# Altium schematic symbol library wius.SchLib: 43 symbols
Pins are listed as number, name and electrical type; pins without a type are passive.

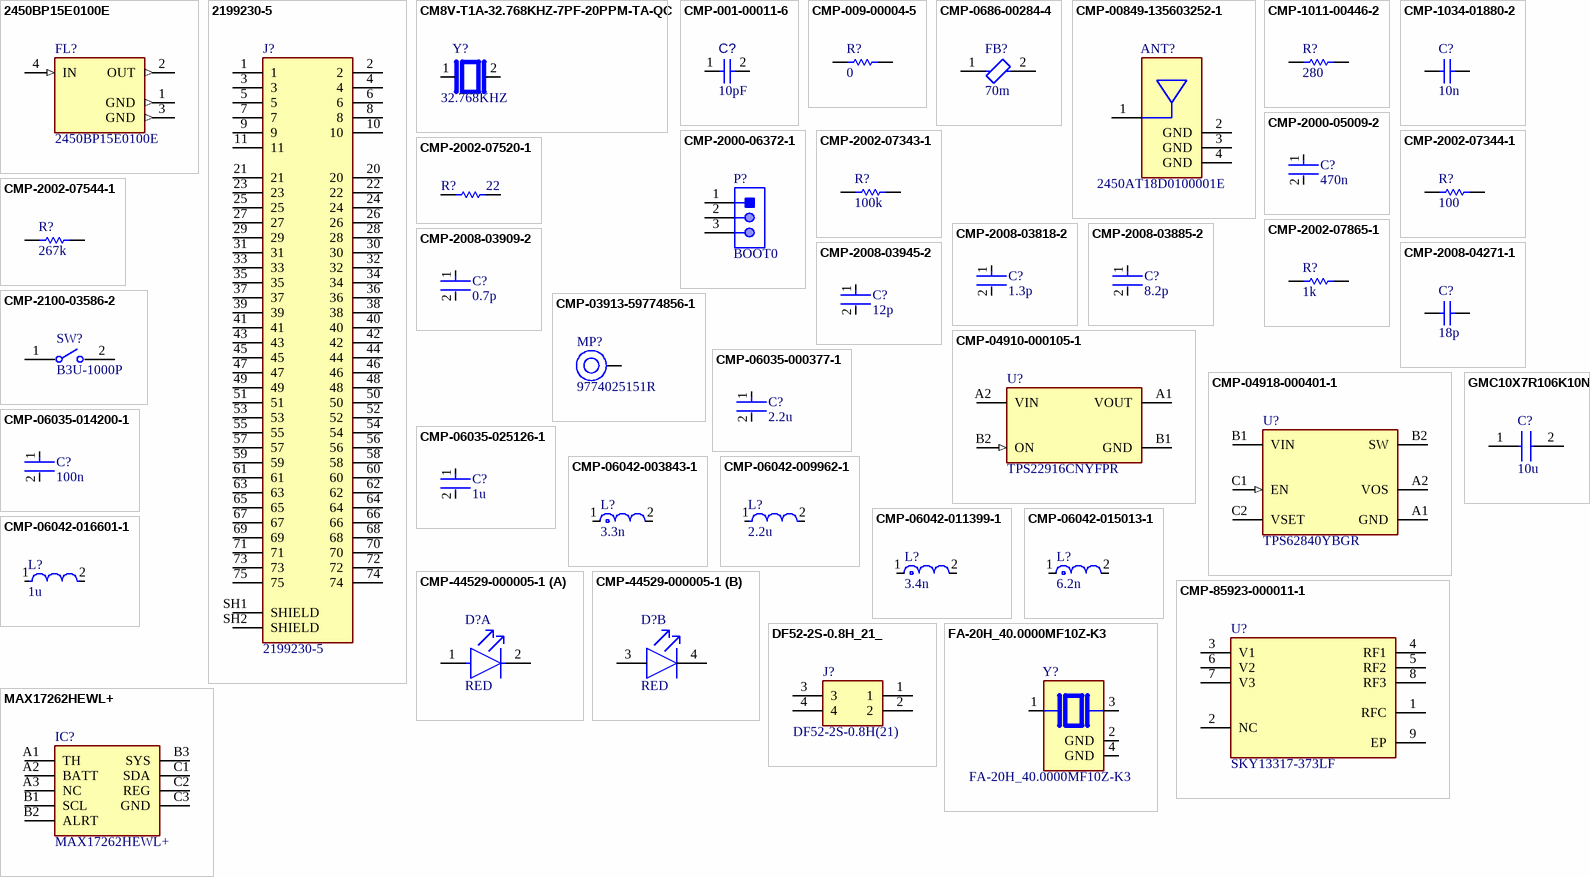
[diagram p0: symbols 2450BP15E0100E to MAX17262HEWL+]

## 2450BP15E0100E
designator FL?
Ceramic Filters Band Pass 1.5dB 50Ohm SMD 4Pin T/R; MF: {'manufacturer': u'Johanson Technology'}; Package: None; Price: None; Value: *; MP: 2450BP15E0100E; Availability: Unavailable; Supplier 1: Digikey; Supplier Part Number 1: 712-2450BP15E0100001ECT-ND; Supplier 2: Farnell; Supplier Part Number 2: 2148528
footprint FIL_2450BP15E0100E
pins: 1 GND (out), 2 OUT (out), 3 GND (out), 4 IN (in)

## 2199230-5
designator J?
Conn Card Edge 67 POS 0.5mm Solder RA SMD Embossed T/R; MF: {'manufacturer': u'TE Connectivity'}; Package: None; Price: None; Value: *; MP: 2199230-5; Availability: Unavailable
footprint TE_2199230-5
pins: 1, 2, 3, 4, 5, 6, 7, 8, 9, 10, 11, 20, 21, 22, 23, 24, 25, 26, 27, 28, 29, 30, 31, 32, 33, 34, 35, 36, 37, 38, 39, 40, 41, 42, 43, 44, 45, 46, 47, 48, 49, 50, 51, 52, 53, 54, 55, 56, 57, 58, 59, 60, 61, 62, 63, 64, 65, 66, 67, 68, 69, 70, 71, 72, 73, 74, 75, SH1 SHIELD, SH2 SHIELD

## CM8V-T1A-32.768KHZ-7PF-20PPM-TA-QC
designator Y?, comment 32.768KHZ
MF: {'manufacturer': u'Micro Crystal'}; MP: CM8V-T1A-32.768KHZ-7PF-20PPM-TA-QC; Package: None; Price: None; Value: *; Availability: Unavailable; Supplier 1: Arrow Electronics; Supplier Part Number 1: CM8V-T1A-32.768KHZ-7PF-20PPM-TA-QC
footprint XTAL_CM8V-T1A-32.768KHZ-7PF-20PPM-TA-QC
pins: 1, 2

## CMP-001-00011-6
designator C?, comment value 10pF  (hidden comment: Capacitor 10 pF +/- 0.25 pF 50 V 0402)
Chip Capacitor, 10 pF, +/- 0.25 pF, 50 V, 0402 (1005 Metric); Manufacturer: KEMET; Manufacturer Part Number: C0402C100C5GACTU; Manufacturer: KYOCERA AVX; Manufacturer Part Number: 04025A100JAT2A; Manufacturer: TDK; Manufacturer Part Number: C1005C0G1H100D050BA; Voltage Rating: 50V; Tolerance: 0.25%; Capacitor Type: Ceramic; Mounting Technology: SM; Pins: 2; Case/Package: 0402; Min Operating Temperature: -55°C; RoHS Compliant: True; Max Operating Temperature: 125°C; Component Type: Capacitors
footprint CAPC1005X55X30LL05T10 (Chip Capacitor, 2-Leads, Body 1.05x0.55mm, IPC High Density)
footprint CAPC1005X55X30ML05T10 (Footprint not found)
footprint CAPC1005X55X30NL05T10 (Footprint not found)
pins: 1, 2

## CMP-009-00004-5
designator R?, comment value 0  (hidden comment: Resistor 0R 0402 63 mW)
Chip Resistor, 0 Ohm, 0.063 W, -55 to 155 degC, 0402 (1005 Metric); Manufacturer: Vishay; Manufacturer Part Number: CRCW04020000Z0ED; Manufacturer: Yageo Group; Manufacturer Part Number: RC0402JR-070RL; Power: 63mW; Voltage Rating: 50V; Max Operating Temperature: 155°C; Pins: 2; RoHS Compliant: True; Min Operating Temperature: -55°C; Mounting Technology: SM; Case/Package: 0402; Component Type: Resistors
footprint RESC1005X40X25ML05T10 (Chip Resistor, 2-Leads, Body 1.05x0.55mm, IPC Low Density)
footprint RESC1005X40X25NL05T10 (Chip Resistor, 2-Leads, Body 1.00x0.50mm, IPC Medium Density)
footprint RESC1005X40X25LL05T10 (Chip Resistor, 2-Leads, Body 1.00x0.50mm, IPC High Density)
pins: 1, 2

## CMP-0686-00284-4
designator FB?, comment 70m
Chip Ferrite Bead, 0402, 80Ω @ 100MHz, 0.07Ω, 25%, 1.5A; Manufacturer: Murata; Manufacturer Part Number: BLM15PD800SN1D; Number of Lines: 1; DC Resistance-Max: 70mR; Impedance: 80R; Height: 0.5mm; Package Quantity: 1; RoHS Compliant: Yes; Max Operating Temperature: 125°C; Depth: 0.5mm; Max Current Rating: 1.5A; Max DC Current: 1.5A; Current Rating: 1.5A; Number of Pins: 2; Case Code (Imperial): 0402; Case/Package: 0402; Case Code (Metric): 1005; Material: Ferrite; Packaging: Tape and Reel; REACH SVHC: No SVHC; Length: 1mm; Tolerance: 25%; Termination: SMD/SMT; Series: BLM15PD; Number of Circuits: 1; Test Frequency: 100MHz; DC Resistance (DCR): 70mR; Min Operating Temperature: -55°C; Lead Free: Lead Free; Width: 0.5mm
footprint FP-BLM15-0_05-MFG
pins: 1, 2

## CMP-00849-135603252-1
designator ANT?, comment 2450AT18D0100001E
2450AT18D0100001E 2.4 Ghz SMD Antenna Resiliant; NexarPartId: 135603252; Manufacturer: Johanson; Bandwidth: 100MHz; Impedance: 50Ω; Power Rating: 3W; Number of Bands: 1; Max Frequency: 2.5GHz; Return Loss: 10dB; Gain: -1dB; Min Operating Temperature: -40°C; Height: 1.3mm; Case/Package: 1206; Max Operating Temperature: 125°C; Manufacturer Part Number: 2450AT18D0100001E
footprint FP-2450AT18D0100001E-MFG
pins: 1 FEED, 2 GND, 3 GND, 4 GND

## CMP-1011-00446-2
designator R?, comment 280
Manufacturer: Yageo; Part Number: RC0402FR-07280RL; Manufacturer: Yageo Group; Manufacturer: Vishay; Manufacturer Part Number: CRCW0402280RFKED; Manufacturer Part Number: CRCW0402280RFKTD; Manufacturer: Panasonic; Manufacturer Part Number: ERJ-2RKF2800X; Manufacturer: Bourns; Manufacturer Part Number: CR0402-FX-2800GLF; Manufacturer Part Number: RC0402FR-07280RL
footprint RESC1005X40X25NL05T10 (Chip Resistor, 2-Leads, Body 1.00x0.50mm, IPC Medium Density)
footprint RESC1005X40X25ML05T10 (Chip Resistor, 2-Leads, Body 1.05x0.55mm, IPC Low Density)
footprint RESC1005X40X25LL05T10 (Chip Resistor, 2-Leads, Body 1.00x0.50mm, IPC High Density)
pins: 1, 2
1 alternate drawing of the same symbol

## CMP-1034-01880-2
designator C?, comment 10n
Manufacturer: Murata; Part Number: GRM155R71E103KA01D; Manufacturer: KEMET; Manufacturer Part Number: C0402C103K3RACTU; Manufacturer: TDK; Manufacturer Part Number: C1005X5R1E103K; Manufacturer: Kyocera / AVX; Manufacturer: Vishay; Manufacturer Part Number: VJ0402Y103KXXAP; Manufacturer: KYOCERA AVX; Manufacturer Part Number: 04023D103KAT2A; Manufacturer Part Number: VJ0402Y103KXXAC; Manufacturer Part Number: VJ0402Y103KXXCW1BC; Manufacturer Part Number: C0402C103K3RACTM; Manufacturer Part Number: C0402C103K3RAC; Manufacturer Part Number: C1005X7R1E103K; Manufacturer: Yageo Group; Manufacturer Part Number: CC0402KRX7R8BB103; Manufacturer Part Number: 04023C103KAT4A; Manufacturer Part Number: VJ0402Y103KXXPW1BC; Manufacturer Part Number: GRM155R71E103KA01D
footprint CAPC1005X55X25LL05T10 (Chip Capacitor, 2-Leads, Body 1.00x0.50mm, IPC High Density)
pins: 1, 2
1 alternate drawing of the same symbol

## CMP-2000-05009-2
designator C?, comment 470n
CAP CER 0.47UF 10V X5R 0402; Manufacturer: Murata Electronics North America; Manufacturer Part Number: GRM155R61A474KE15D; Manufacturer: Murata; Temperature Coefficient: 15%; Material: Ceramic; Tolerance: 10%; Device Class L3: Ceramic Capacitors; ComponentLink2Description: Datasheet; ComponentLink2URL: https://search.murata.co.jp/Ceramy/image/img/A01X/G101/ENG/GRM155R61A474KE15-01A.pdf; Package: GRM15-0.1; Voltage Rating: 10V; Capacitance: 0.47uF; Category: Cap; Temperature Range High: +85°C; Temperature Range Low: -55°C; Height: 0.55mm; Device Class L2: Capacitors; Lead Free: Yes; Mouser Description: Multilayer Ceramic Capacitors MLCC - SMD/SMT 0402 0.47uF 10volts X5R 10%; Ipc Land Pattern Name: CAPC10050X50; Temperature Characteristic: X5R; Digikey Description: CAP CER 0.47UF 10V X5R 0402; Value: 0.47uF; Octopart: https://octopart.com/grm155r61a474ke15d-murata-196883; Automotive: No; Device Class L1: Passive Components; Temperature: -55°C to +85°C; RoHS: TRUE
footprint FP-GRM15-0_1-MFG
pins: 1, 2

## CMP-2000-06372-1
designator P?, comment BOOT0
Male Header, Pitch 1.27 mm, 1 x 3 Position, Height 4 mm, Tail Length 2.3 mm, -40 to 105 degC, RoHS, Bulk; Manufacturer: Sullins; Manufacturer Part Number: GRPB031VWVN-RC; Other Names: S9014E-03; Number of Positions: 3; Connector Type: Header,Unshrouded; Pitch: 0.050"(1.27mm); Dynamic Catalog: GRPB; Catalog Drawings: S9014ESeriesTop; Mating Products: S9010E-03-ND / -CONNHEADER.050"3POSR/APCB / S9008E-03-ND / -CONNHEADER.050"3POSPCBGOLD / S9005E-03-ND / -CONNHEADER.050"3POSSMDGOLD; Number of Positions Loaded: All; Contact Finish: Gold; Mounting Type: ThroughHole; Termination: Solder; Packaging: Bulk; Category: Connectors,Interconnects; Package Description: Male Header, Pitch 1.27 mm, 1 x 3 Position, Height 4 mm, Tail Length 2.3 mm; Standard Package: 1; Datasheet URL: http://www.sullinscorp.com/drawings/71_GRPB___1VWVN-RC,_10957-C.pdf; Package Reference: GRPB031VWVN-RC; Family: RectangularConnectors-Headers,MalePins; Number of Rows: 1; Contact Type: MalePin; Manufacturer URL: http://www.sullinscorp.com/; Mounting Technology: ThroughHole; Contact Mating Length: 0.118"(3.00mm); Contact Finish Thickness: Flash; Datasheet Version: Rev. C, 12/2008
footprint SLIN-GRPB031VWVN-RC_V (Header, 3-Leads, Body 3.81x2.14mm, Pitch 1.27mm)
pins: 1, 2, 3

## CMP-2002-07343-1
designator R?, comment 100k
Part Number: RC0402FR-07100KL; Manufacturer: Yageo / Phycomp; Manufacturer: Yageo Group; Manufacturer Part Number: RC0402FR-07100KL
footprint RESC1005X40X25NL05T10 (Chip Resistor, 2-Leads, Body 1.00x0.50mm, IPC Medium Density)
footprint RESC1005X40X25LL05T10 (Chip Resistor, 2-Leads, Body 1.00x0.50mm, IPC High Density)
footprint RESC1005X40X25ML05T10 (Chip Resistor, 2-Leads, Body 1.05x0.55mm, IPC Low Density)
pins: 1, 2
1 alternate drawing of the same symbol

## CMP-2002-07344-1
designator R?, comment 100
Part Number: RC0402FR-07100RL; Manufacturer: Yageo / Phycomp; Manufacturer: Yageo Group; Manufacturer Part Number: RC0402FR-07100RL
footprint RESC1005X40X25ML05T10 (Chip Resistor, 2-Leads, Body 1.05x0.55mm, IPC Low Density)
footprint RESC1005X40X25NL05T10 (Chip Resistor, 2-Leads, Body 1.00x0.50mm, IPC Medium Density)
footprint RESC1005X40X25LL05T10 (Chip Resistor, 2-Leads, Body 1.00x0.50mm, IPC High Density)
pins: 1, 2
1 alternate drawing of the same symbol

## CMP-2002-07520-1
designator R?, comment 22
Manufacturer: Yageo / Phycomp; Part Number: RC0402FR-0722RL; Manufacturer: Yageo Group; Manufacturer Part Number: RC0402FR-0722RL
footprint RESC1005X40X25LL05T10 (Chip Resistor, 2-Leads, Body 1.00x0.50mm, IPC High Density)
footprint RESC1005X40X25NL05T10 (Chip Resistor, 2-Leads, Body 1.00x0.50mm, IPC Medium Density)
footprint RESC1005X40X25ML05T10 (Chip Resistor, 2-Leads, Body 1.05x0.55mm, IPC Low Density)
pins: 1, 2
1 alternate drawing of the same symbol

## CMP-2002-07544-1
designator R?, comment 267k
Manufacturer: Yageo; Part Number: RC0402FR-07267KL; Manufacturer: Yageo Group; Manufacturer Part Number: RC0402FR-07267KL
footprint RESC1005X40X25LL05T10 (Chip Resistor, 2-Leads, Body 1.00x0.50mm, IPC High Density)
footprint RESC1005X40X25NL05T10 (Chip Resistor, 2-Leads, Body 1.00x0.50mm, IPC Medium Density)
footprint RESC1005X40X25ML05T10 (Chip Resistor, 2-Leads, Body 1.05x0.55mm, IPC Low Density)
pins: 1, 2
1 alternate drawing of the same symbol

## CMP-2002-07865-1
designator R?, comment 1k
Manufacturer: Yageo; Part Number: RC0402FR-131KL; Manufacturer: Yageo Group; Manufacturer Part Number: RC0402FR-131KL
footprint RESC1005X40X25LL05T10 (Chip Resistor, 2-Leads, Body 1.00x0.50mm, IPC High Density)
footprint RESC1005X40X25ML05T10 (Chip Resistor, 2-Leads, Body 1.05x0.55mm, IPC Low Density)
footprint RESC1005X40X25NL05T10 (Chip Resistor, 2-Leads, Body 1.00x0.50mm, IPC Medium Density)
pins: 1, 2
1 alternate drawing of the same symbol

## CMP-2008-03818-2
designator C?, comment 1.3p
Multi-Layer Ceramic Capacitor 1.3pF C0G  ±0.05pF 0402 Paper T/R; Manufacturer: Murata; Manufacturer Part Number: GJM1555C1H1R3WB01D; Voltage Rating (DC): 50V; Radiation Hardening: No; Voltage Rating: 50V; Thickness: 0.022inch; Case Code (Metric): 1005; Packaging: Tape and Reel; Dielectric: C0G; Case Code (Imperial): 0402; Lead Free: Lead Free; Depth: 0.5mm; Termination: SMD/SMT; Case/Package: 0402; Min Operating Temperature: -55°C; Height: 0.5mm; Max Operating Temperature: 125°C; Capacitance: 1.3pF; Package Quantity: 10000; Width: 0.02inch; Length: 0.039inch; Mount: Surface Mount
footprint FP-GJM155-0_05-IPC_B
footprint FP-GJM155-0_05-IPC_C
pins: 1, 2

## CMP-2008-03885-2
designator C?, comment 8.2p
Multi-Layer Ceramic Capacitor 8.2pF C0G  ±0.1pF 0402 Paper T/R; Manufacturer: Murata; Manufacturer Part Number: GJM1555C1H8R2BB01D; Voltage Rating: 50V; Case Code (Imperial): 0402; Length: 1mm; Width: 0.02inch; Dielectric: C0G; Mount: Surface Mount; Case Code (Metric): 1005; Max Operating Temperature: 125°C; Thickness: 0.022inch; Lead Free: Lead Free; Package Quantity: 10000; Case/Package: 0402; Voltage Rating (DC): 50V; Termination: SMD/SMT; Height: 0.5mm; Capacitance: 8.2pF; Min Operating Temperature: -55°C; Radiation Hardening: No; Packaging: Tape and Reel; Depth: 0.5mm
footprint FP-GJM155-0_05-IPC_B
footprint FP-GJM155-0_05-IPC_C
pins: 1, 2

## CMP-2008-03909-2
designator C?, comment 0.7p
Multi-Layer Ceramic Capacitor 0.7pF C0G  ±0.05pF 0402 Paper T/R; Manufacturer: Murata; Manufacturer Part Number: GJM1555C1HR70WB01D; Voltage Rating (DC): 50V; Packaging: Tape and Reel; Case Code (Imperial): 0402; Mount: Surface Mount; Case Code (Metric): 1005; Width: 0.02inch; Length: 1mm; Radiation Hardening: No; Max Operating Temperature: 125°C; Termination: SMD/SMT; Dielectric: C0G; Min Operating Temperature: -55°C; Height: 0.5mm; Capacitance: 0.7pF; Voltage Rating: 50V; Thickness: 0.022inch; Package Quantity: 10000; Depth: 0.5mm; Case/Package: 0402
footprint FP-GJM155-0_05-IPC_C
footprint FP-GJM155-0_05-IPC_B
pins: 1, 2

## CMP-2008-03945-2
designator C?, comment 12p
CAP CER 12PF 50V C0G/NP0 0402; Manufacturer: Murata; Manufacturer Part Number: GRM1555C1H120GA01D; Tolerance: 2%; Dielectric: C0G; Material: Ceramic; Termination: SMD/SMT; Mount: Surface Mount; REACH SVHC: No SVHC; Depth: 0.5mm; Case Code (Metric): 1005; Voltage Rating: 50V; Height: 0.5mm; Voltage Rating (DC): 50V; Case Code (Imperial): 0402; Package Quantity: 10000; Construction: Flat; Thickness: 0.022inch; Length: 1mm; Min Operating Temperature: -55°C; Width: 0.5mm; Lead Free: Lead Free; Capacitance: 12pF; Case/Package: 0402; Packaging: Tape and Reel; Series: GRM; Voltage: 50V; Radiation Hardening: No; Max Operating Temperature: 125°C
footprint FP-GRM155-0_05-MFG
pins: 1, 2

## CMP-2008-04271-1
designator C?, comment 18p
Manufacturer: Murata; Part Number: GRM1555C1H180GA01D; Manufacturer Part Number: GRM1555C1H180GA01D
footprint CAPC1005X55X25LL05T10 (Chip Capacitor, 2-Leads, Body 1.00x0.50mm, IPC High Density)
pins: 1, 2
1 alternate drawing of the same symbol

## CMP-2100-03586-2
designator SW?, comment B3U-1000P
SWITCH TACTILE SPST-NO 0.05A 12V; Manufacturer: Omron; Contact Resistance: 100mR; Operating Force: 1.5N; Max Current Rating: 50mA; Switch Travel: 0.15mm; Actuator Type: Standard; Mechanical Life: 200000Cycles; Ratings: Dust Proof; Illumination Type: Non-Illuminated; Throw Configuration: SPST; Actuator Length: 0.4mm; Switch Function: Off-Mom; Height: 1.2mm; Width: 3mm; Weight: 0.000776oz; Contact Material: Silver; Max Voltage Rating (DC): 12V; Insulation Resistance: 100MR; Lead Free: Lead Free; Current Rating: 50mA; Termination: SMD/SMT; Length: 4mm; Voltage Rating (DC): 12V; Contact Current Rating: 50mA; Orientation: Straight; Depth: 2.5mm; Max Operating Temperature: 70°C; Packaging: Tape and Reel; Min Operating Temperature: -25°C; Package Quantity: 1; Mount: Surface Mount; Electrical Life: 200000Cycles; Manufacturer Part Number: B3U-1000P
footprint FP-B3U-1000P-MFG
pins: 1, 2

## CMP-03913-59774856-1
designator MP?, comment 9774025151R
9774025151R Spacer Material: Steel Mounting: SMT Series: WA-SMSI Thread D: M2.5; NexarPartId: 59774856; Manufacturer: Wurth Elektronik; Plating: Tin; Threaded/Unthreaded: Threaded; Outside Diameter: 5.1054mm; REACH SVHC: Unknown; Packaging: Tape and Reel; Height: 2.6mm; Min Operating Temperature: -55°C; Max Operating Temperature: 150°C; RoHS: Compliant; Length: 2.5mm; Material: Steel; Manufacturer Part Number: 9774025151R
footprint 9774025151 (SMT Steel Spacer with internal Thread M2.5, height 2.5mm)
pins: 1

## CMP-04910-000105-1
designator U?, comment TPS22916CNYFPR
IC PWR SWITCH P-CHAN 1:1 4DSBGA; Manufacturer: Texas Instruments; Max Output Current: 2A; Number of Outputs: 1; Fault Protection: Reverse Current; Output Configuration: High Side; RoHS Compliant: Yes; Min Operating Temperature: -40°C; Packaging: Cut Tape; Number of Channels: 1; Max Operating Temperature: 85°C; Manufacturer Part Number: TPS22916CNYFPR
footprint FP-YFP0004-IPC_C
pins: A1 VOUT (power), A2 VIN (power), B1 GND (power), B2 ON (in)

## CMP-04918-000401-1
designator U?, comment TPS62840YBGR
ULTRA LOW IQ BUCK CONVERTER; Manufacturer: Texas Instruments; Manufacturer Part Number: TPS62840YBGR
footprint FP-YBG0006-MFG
pins: A1 GND (power), A2 VOS (power), B1 VIN (power), B2 SW (power), C1 EN (in), C2 VSET (power)

## CMP-06035-000377-1
designator C?, comment 2.2u
Chip Multilayer Ceramic Capacitors for General Purpose, 0402, 2.2uF, X7S, 22%, 10%, 10V; Manufacturer: Murata; Manufacturer Part Number: GRM155C71A225KE11D; Thickness: 0.022inch; Height: 0.5mm; Packaging: Tape and Reel; Voltage Rating (DC): 10V; Tolerance: 10%; Capacitance: 2.2uF; Case Code (Metric): 1005; Voltage Rating: 10V; Termination: SMD/SMT; Weight: 0.000212oz; Min Operating Temperature: -55°C; Max Operating Temperature: 125°C; Case/Package: 0402; Length: 0.039inch; Dielectric: X7S; Resistor Type: Ceramic; Width: 0.5mm; Mount: Surface Mount; Package Quantity: 10000; Case Code (Imperial): 0402; Lead Free: Lead Free
footprint FP-GRM155-0_2-IPC_C
pins: 1, 2

## CMP-06035-014200-1
designator C?, comment 100n
Multi-Layer Ceramic Capacitor 100nF 50V X7R ±10% 0402 Paper T/R; Manufacturer: Murata; Manufacturer Part Number: GRT155R71H104KE01D
footprint FP-GRT155-0_05-MFG
pins: 1, 2

## CMP-06035-025126-1
designator C?, comment 1u
Chip Multilayer Ceramic Capacitors for General Purpose, 0402, 1.0uF, X6S, 22%, 10%, 16V; Manufacturer: Murata; Manufacturer Part Number: GRM155C81C105KE15D; Capacitance: 1uF; Thickness: 500um; Voltage Rating (DC): 16V; Tolerance: 10%; Width: 500um; Length: 1mm; Dielectric: X6S
footprint FP-GRM155-0_05-MFG
pins: 1, 2

## CMP-06042-003843-1
designator L?, comment 3.3n
Multilayer type RF Inductor 3.3nH ±0.3nH 0.12Ω 800mA 0402; Manufacturer: Murata; Manufacturer Part Number: LQG15HN3N3S02D; DC Resistance (DCR): 190mR; Test Frequency: 100MHz; Core Material: Air; Current Rating: 300mA; Q Factor: 8; Self Resonant Frequency: 6GHz; Shielding: Unshielded; Termination: SMD/SMT; Case Code (Metric): 1005; Lead Free: Lead Free; Min Operating Temperature: -55°C; Radiation Hardening: No; Max Operating Temperature: 125°C; Mount: Surface Mount; Packaging: Tape and Reel; Length: 0.039inch; Case/Package: 0402; Depth: 0.55mm; Inductance: 3.3nH; REACH SVHC: No SVHC; Package Quantity: 10000; Current: 300mA; Height - Seated (Max): 0.022inch; Width: 0.02inch; DC Current: 300mA; Military Standard: Not; Max DC Current: 300mA; Case Code (Imperial): 0402; Height: 0.5mm
footprint FP-LQG15HH_02-IPC_C
pins: 1, 2

## CMP-06042-009962-1
designator L?, comment 2.2u
Shielded Wirewound Inductor 2.2uH 20% 1800mA 0.116Ω 0806 (2016); Manufacturer: Murata; Manufacturer Part Number: DFE201612E-2R2M=P2
footprint FP-DFE201612C-MFG
pins: 1, 2

## CMP-06042-011399-1
designator L?, comment 3.4n
Multilayer type Inductor for Automotive 3.4nH ±0.1nH 0.09Ω 900mA 0402; Manufacturer: Murata; Manufacturer Part Number: LQG15WH3N4B02D
footprint FP-LQG15WH_02-IPC_C
pins: 1, 2

## CMP-06042-015013-1
designator L?, comment 6.2n
Multilayer type Inductor for Automotive 6.2nH ±0.1nH 0.13Ω 700mA 0402; Manufacturer: Murata; Manufacturer Part Number: LQG15WH6N2B02D
footprint FP-LQG15WH_02-IPC_C
pins: 1, 2

## CMP-06042-016601-1
designator L?, comment 1u
FIXED IND 1.0UH 2.0A 95MOHM; Manufacturer: Murata; Manufacturer Part Number: DFE201210U-1R0M=P2; RoHS Compliant: Yes
footprint FP-DFE201210U-IPC_C
pins: 1, 2

## CMP-44529-000005-1
designator D?, comment RED
LED GREEN/RED CLEAR CHIP SMD; Manufacturer: Kingbright; Manufacturer Part Number: APTB1615SURKCGKC-F01; Reverse Voltage: 5V; Viewing Angle: 150°; Max Junction Temp: +115°C; Led Orientation: Top View; Wavelength: 630/570nm; Colour: Red, Green; Forward Voltage: 1.95/2.1V; Peak Emmision Wavelength: 645/574nm; Power Dissipation: 75mW; Forward Current: 20mA; Luminous Intensity: 200/50mcd; Temperature Range High: +85°C; Temperature: -40°C to +85°C; Digikey Description: LED GREEN/RED CLEAR CHIP SMD; RoHS: TRUE; Automotive: No; Octopart: https://octopart.com/aptb1615surkcgkc-f01-kingbright-5355651; Temperature Range Low: -40°C; Device Class L3: unset; ComponentLink2Description: Datasheet; Device Class L1: Optoelectronics; Height: 0.9mm; ComponentLink2URL: http://www.kingbrightusa.com/images/catalog/SPEC/APTB1615SURKCGKC-F01.pdf; Category: Diode; Package: APTB1615SURKCGKC-F01; Device Class L2: LEDs; Lead Free: Yes
footprint FP-APTB1615SURKCGKC-F01-MFG
part A pins: 1 RED A, 2 RED C
part B pins: 3 GREEN A, 4 GREEN C

## CMP-85923-000011-1
designator U?, comment SKY13317-373LF
IC RF SWITCH SP3T 6GHZ 8MLP; Manufacturer: Skyworks Solutions; Test Frequency: 5.9GHz; Number of Switches: 1; Turn-Off Delay Time: 20ns; IIP3: 50dBm; P1dB: 26dBm; Turn-On Delay Time: 55ns; Operating Frequency: 20 MHz to 6 GHz; Insertion Loss: 0.8dB; Impedance: 50R; Min Operating Temperature: -40°C; Max Operating Temperature: 100°C; Number of Pins: 8; Max Frequency: 6GHz; Mount: Surface Mount; Case/Package: QFN; Radiation Hardening: No; Frequency: 6GHz; Package Quantity: 3000; Throw Configuration: SP3T; RoHS Compliant: Yes; Series: -; Packaging: Tape and Reel; Technology: GAAS; Manufacturer Part Number: SKY13317-373LF
footprint FP-SKY13317-373LF-MFG
pins: 1 RFC, 2 NC, 3 V1, 4 RF1, 5 RF2, 6 V2, 7 V3, 8 RF3, 9 EP (oe)

## DF52-2S-0.8H_21_
designator J?, comment DF52-2S-0.8H(21)
Connector; Manufacturer_Name: Hirose; Datasheet Link: https://datasheet.datasheetarchive.com/originals/distributors/DKDS-30/591726.pdf; Height: 1mm; Manufacturer_Part_Number: DF52-2S-0.8H(21); Mouser Part Number: 798-DF52-2S-0.8H21; Mouser Price/Stock: https://www.mouser.co.uk/ProductDetail/Hirose-Connector/DF52-2S-0.8H21?qs=%2FKR40Cd6GUpAHUMGMtWbig%3D%3D
footprint DF522S08H21
pins: 1, 2, 3, 4

## FA-20H_40.0000MF10Z-K3
designator Y?
MF: {'manufacturer': u'EPSON'}; MP: FA-20H 40.0000MF10Z-K3; Package: None; Price: None; Value: *; Availability: Unavailable; Supplier 1: Future Electronics; Supplier Part Number 1: 6169727
footprint XTAL_FA-20H_40.0000MF10Z-K3
pins: 1, 2 GND (power), 3 2, 4 GND (power)

## GMC10X7R106K10NT
designator C?, comment 10u
Cap Cer 10UF 10V X7R 0603; Manufacturer_Name: Cal-Chip; Manufacturer_Part_Number: GMC10X7R106K10NT; Datasheet Link: https://88ce57.p3cdn1.secureserver.net/wp-content/uploads/2023/01/gmc_series-2.pdf; Height: 1mm; Supplier 1: Digikey; Supplier Part Number 1: 4713-GMC10X7R106K10NTCT-ND
footprint CAPC1608X100N
pins: 1, 2

## MAX17262HEWL+
designator IC?
Integrated Circuit; Manufacturer_Name: Analog Devices; Datasheet Link: https://www.analog.com/MAX17262/datasheet; Height: 0.69mm; Manufacturer_Part_Number: MAX17262HEWL+
footprint BGA9C40P3X3_153X153X69
pins: A1 TH, A2 BATT, A3 NC, B1 SCL, B2 ALRT, B3 SYS, C1 SDA, C2 REG, C3 GND

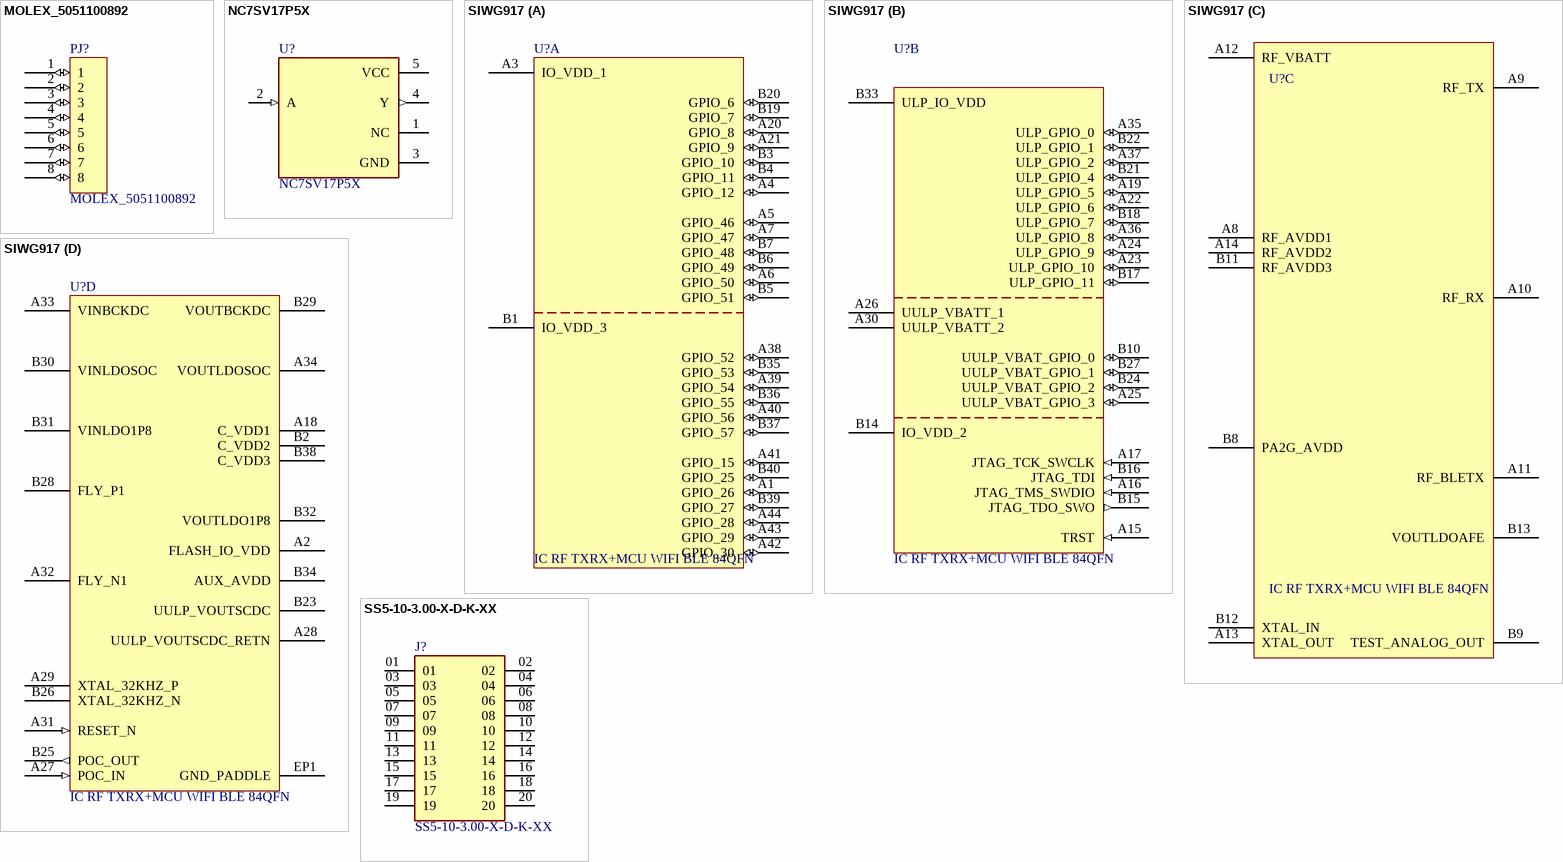
[diagram p1: symbols MOLEX_5051100892 to SS5-10-3.00-X-D-K-XX]

## MOLEX_5051100892
designator PJ?
footprint MOLEX_5051100892
pins: 1 (io), 2 (io), 3 (io), 4 (io), 5 (io), 6 (io), 7 (io), 8 (io)

## NC7SV17P5X
designator U?
Buffer, Non-Inverting 1 Element 1 Bit per Element Push-Pull Output SC-70-5; MF: {'manufacturer': u'ON Semiconductor'}; Package: None; Price: None; Value: *; MP: NC7SV17P5X; Availability: Unavailable
footprint SOT65P210X110-5N
pins: 1 NC, 2 A (in), 3 GND (power), 4 Y (out), 5 VCC (power)

## SIWG917
designator U?, comment IC RF TXRX+MCU WIFI BLE 84QFN
footprint SIWG917M110LGTBA
part A pins: A1 GPIO_26 (io), A3 IO_VDD_1 (power), A4 GPIO_12 (io), A5 GPIO_46 (io), A6 GPIO_50 (io), A7 GPIO_47 (io), A20 GPIO_8 (io), A21 GPIO_9 (io), A38 GPIO_52 (io), A39 GPIO_54 (io), A40 GPIO_56 (io), A41 GPIO_15 (io), A42 GPIO_30 (io), A43 GPIO_29 (io), A44 GPIO_28 (io), B1 IO_VDD_3 (power), B3 GPIO_10 (io), B4 GPIO_11 (io), B5 GPIO_51 (io), B6 GPIO_49 (io), B7 GPIO_48 (io), B19 GPIO_7 (io), B20 GPIO_6 (io), B35 GPIO_53 (io), B36 GPIO_55 (io), B37 GPIO_57 (io), B39 GPIO_27 (io), B40 GPIO_25 (io)
part B pins: A15 TRST (in), A16 JTAG_TMS_SWDIO (in), A17 JTAG_TCK_SWCLK (in), A19 ULP_GPIO_5 (io), A22 ULP_GPIO_6 (io), A23 ULP_GPIO_10 (io), A24 ULP_GPIO_9 (io), A25 UULP_VBAT_GPIO_3 (io), A26 UULP_VBATT_1 (power), A30 UULP_VBATT_2 (power), A35 ULP_GPIO_0 (io), A36 ULP_GPIO_8 (io), A37 ULP_GPIO_2 (io), B10 UULP_VBAT_GPIO_0 (io), B14 IO_VDD_2 (power), B15 JTAG_TDO_SWO (out), B16 JTAG_TDI (in), B17 ULP_GPIO_11 (io), B18 ULP_GPIO_7 (io), B21 ULP_GPIO_4 (io), B22 ULP_GPIO_1 (io), B24 UULP_VBAT_GPIO_2 (io), B27 UULP_VBAT_GPIO_1 (io), B33 ULP_IO_VDD (power)
part C pins: A8 RF_AVDD1 (power), A9 RF_TX, A10 RF_RX, A11 RF_BLETX, A12 RF_VBATT (power), A13 XTAL_OUT, A14 RF_AVDD2 (power), B8 PA2G_AVDD (power), B9 TEST_ANALOG_OUT, B11 RF_AVDD3 (power), B12 XTAL_IN, B13 VOUTLDOAFE (power)
part D pins: A2 FLASH_IO_VDD (power), A18 C_VDD1 (power), A27 POC_IN (in), A28 UULP_VOUTSCDC_RETN, A29 XTAL_32KHZ_P, A31 RESET_N (in), A32 FLY_N1, A33 VINBCKDC (power), A34 VOUTLDOSOC (power), B2 C_VDD2 (power), B23 UULP_VOUTSCDC, B25 POC_OUT (out), B26 XTAL_32KHZ_N, B28 FLY_P1, B29 VOUTBCKDC (power), B30 VINLDOSOC (power), B31 VINLDO1P8 (power), B32 VOUTLDO1P8 (power), B34 AUX_AVDD, B38 C_VDD3 (power), EP1 GND_PADDLE (power)

## SS5-10-3.00-X-D-K-XX
designator J?
0.50mm Socket Strip Assembly; MF: Samtec Inc.; Availability: Unavailable; MP: SS5-10-3.00-X-D-K-XX; Price: None; Package: None; Value: *
footprint SAMTEC_SS5-10-3.00-X-D-K-XX
pins: 01, 02, 03, 04, 05, 06, 07, 08, 09, 10, 11, 12, 13, 14, 15, 16, 17, 18, 19, 20